# EAGLE library part LTC3534 (library PowerProducts)
LT-Spice library generated with : ltspice.ulp from: D:/Program Files (x86)/LTC/LTspiceIV/lib/sym/PowerProducts/LTC3535*.asy at 07.10.2012 18:16:10
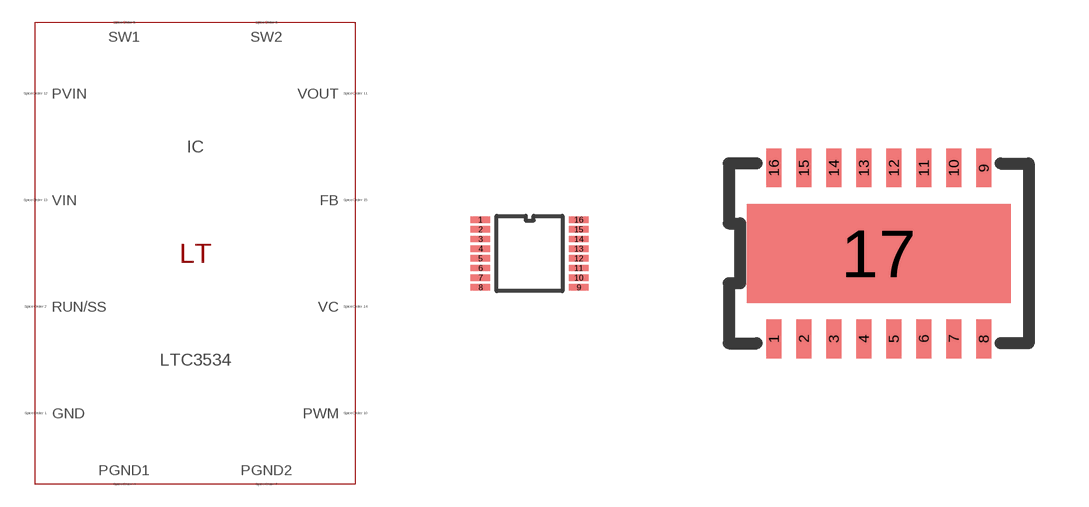
[diagram p224: symbol with the pads of SSOP16(GN); footprints SSOP16(GN), DFN16(DHC)]

Designator prefix IC

## LTC3534GN (SPICEMODEL: LTC3534.sub; SPICEPREFIX: X; VALUE2: LTC3534)  [SSOP16(GN)]
1  GND  pas
2  RUN/SS  pas
3  GND  pas
4  PGND1  pas
5  SW1  pas
6  SW2  pas
7  PGND2  pas
8  GND  pas
9  GND  pas
10  PWM  pas
11  VOUT  pas
12  PVIN  pas
13  VIN  pas
14  VC  pas
15  FB  pas
16  GND  pas

## LTC3534 (SPICEMODEL: LTC3534.sub; SPICEPREFIX: X; VALUE2: LTC3534)  [DFN16(DHC)]
1  GND  pas
2  RUN/SS  pas
3  GND  pas
4  PGND1  pas
5  SW1  pas
6  SW2  pas
7  PGND2  pas
8  GND  pas
9  GND  pas
10  PWM  pas
11  VOUT  pas
12  PVIN  pas
13  VIN  pas
14  VC  pas
15  FB  pas
16  GND  pas
17  GND  pas

## Footprint SSOP16(GN) (pad centres in mm)
Package generated from: SSOP16(GN).asc (!PADS-POWERPCB-V5.0-BASIC! DESIGN DATABASE ASCII FILE 1.0) with :import-pads-powerpcb-v5.ulp Version 1.0.1 at 04.10.2012 14:11:37
smd 0.484 x 0.16: 1 -1.229,0.847; 2 -1.229,0.605; 3 -1.229,0.363; 4 -1.229,0.121; 5 -1.229,-0.121; 6 -1.229,-0.363; 7 -1.229,-0.605; 8 -1.229,-0.847; 9 1.229,-0.847; 10 1.229,-0.605; 11 1.229,-0.363; 12 1.229,-0.121; 13 1.229,0.121; 14 1.229,0.363; 15 1.229,0.605; 16 1.229,0.847

## Footprint DFN16(DHC) (pad centres in mm)
Package generated from: DFN16(DHC).asc (!PADS-POWERPCB-V5.0-BASIC! DESIGN DATABASE ASCII FILE 1.0) with :import-pads-powerpcb-v5.ulp Version 1.0.1 at 04.10.2012 14:11:17
smd 0.375 x 0.975: 1 -2.625,-2.138; 2 -1.875,-2.138; 3 -1.125,-2.138; 4 -0.375,-2.138; 5 0.375,-2.138; 6 1.125,-2.138; 7 1.875,-2.138; 8 2.625,-2.138; 9 2.625,2.138; 10 1.875,2.138; 11 1.125,2.138; 12 0.375,2.138; 13 -0.375,2.138; 14 -1.125,2.138; 15 -1.875,2.138; 16 -2.625,2.138
smd 6.6 x 2.475: 17 0,0